# EAGLE library part L298 (library FansElectronics-Modul)
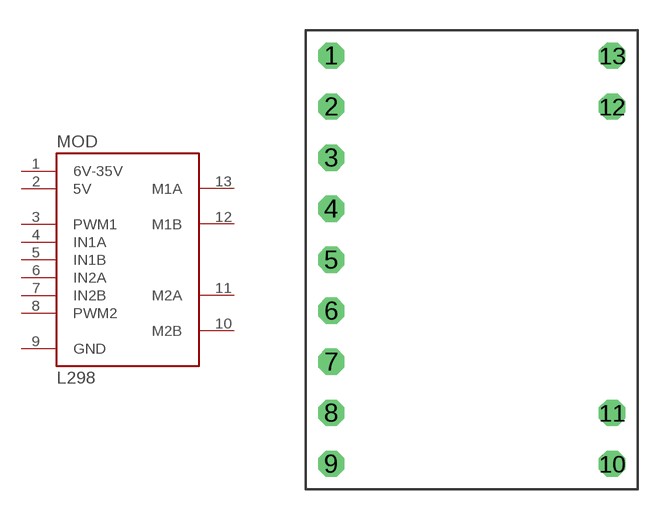
[diagram p33: symbol with the pads of L298; footprint L298]

Designator prefix MOD

## L298  [L298]
1  6V-35V  pwr
2  5V  pwr
3  PWM1
4  IN1A
5  IN1B
6  IN2A
7  IN2B
8  PWM2
9  GND  pwr
10  M2B
11  M2A
12  M1B
13  M1A

## Footprint L298 (pad centres in mm)
drill 0.8 octagon: 1 0,3.81; 2 0,1.27; 3 0,-1.27; 4 0,-3.81; 5 0,-6.35; 6 0,-8.89; 7 0,-11.43; 8 0,-13.97; 9 0,-16.51; 10 13.97,-16.51; 11 13.97,-13.97; 12 13.97,1.27; 13 13.97,3.81